# Altium footprint library PCB - LED - LED 3MM.PcbLib: 1 footprints
Each footprint in its own frame and in the unit in brackets; x right, y up, seen from the top. Pads: shape width x height; smd on the part's side, far side on the other; paste and mask are expansions set on the pad; w line width, h text height; cw(c..) or ccw(c..) is an arc to the next point about the centre after c.
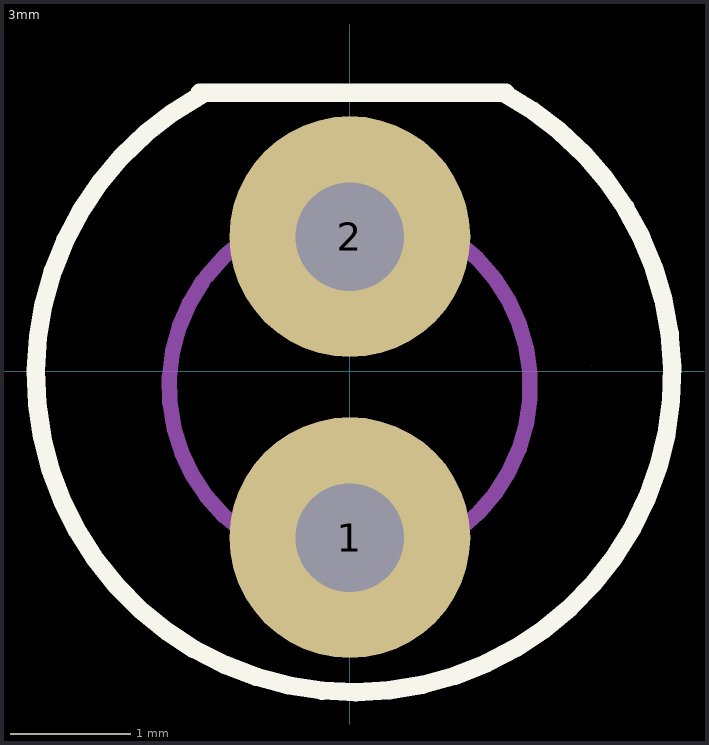
[diagram p0: the footprint, top view; thin cyan lines are the x and y axes]

## 3mm [mm]
pads (2):
  round 2 hole 0.9 paste+0 mask+0.051: 1(0.001,-1.383) 2(0.001,1.117)
Top Overlay:
  lines w0.05: -0.499,0.367 0.501,0.367
  lines w0.152: -1.245,2.311 1.295,2.311 ; -1.234,2.293 ccw(c0.036,-0.025) 1.281,2.306 ; -0.499,-0.633 0.501,-0.633
Mechanical 15:
  lines w0.127: -1.221,0.745 ccw(c0,-0.127) -1.189,0.788
Mechanical 29:
  lines w0.003: 2.007,0.047 2.008,0.048
  text "'.Designator'" at 0.254,0.762 h1.52
3D body "CircuitWorks-LED DIP 3MM.STEP": height 6.5, standoff -2, extent -1.895,-1.877 1.905,1.623